# EAGLE library part RW-W1SA27HS-M42-RGB_LED (library myLib)
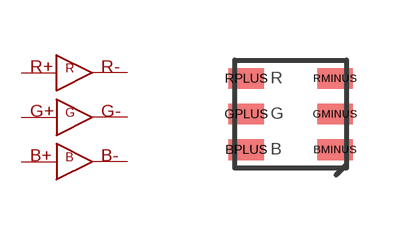
[diagram p0: symbol with the pads of RGB_LED; footprint RGB_LED]

Designator prefix -

## RW-W1SA27HS-M42-RGB_LED  [RGB_LED]
BMINUS  BMINUS
BPLUS  BPLUS
GMINUS  GMINUS
GPLUS  GPLUS
RMINUS  RMINUS
RPLUS  RPLUS

## Footprint RGB_LED (pad centres in mm)
smd 0.88 x 0.52: BMINUS 1.11,-0.89; BPLUS -1.11,-0.89; GMINUS 1.11,0; GPLUS -1.11,0; RMINUS 1.11,0.89; RPLUS -1.11,0.89